# EAGLE library part MBI1801 (library IC)
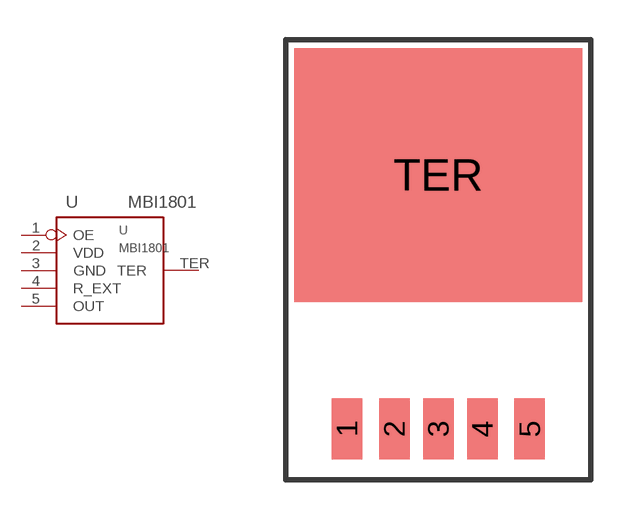
[diagram p74: symbol with the pads of TO265; footprint TO265]

Designator prefix U

## MBI1801-TO265  [TO265]
1  OE
2  VDD
3  GND
4  R_EXT
5  OUT
TER  TER

## Footprint TO265 (pad centres in mm)
TO-263
smd 1.143 x 2.286: 1 -3.429,-5.715; 2 -1.651,-5.715; 3 0,-5.715; 4 1.651,-5.715; 5 3.429,-5.715
smd 10.795 x 9.525: TER 0,3.81